# Altium footprint library EL-TCaseC2312(6032-28).PcbLib: 1 footprints
Each footprint in its own frame and in the unit in brackets; x right, y up, seen from the top. Pads: shape width x height; smd on the part's side, far side on the other; paste and mask are expansions set on the pad; w line width, h text height; cw(c..) or ccw(c..) is an arc to the next point about the centre after c.
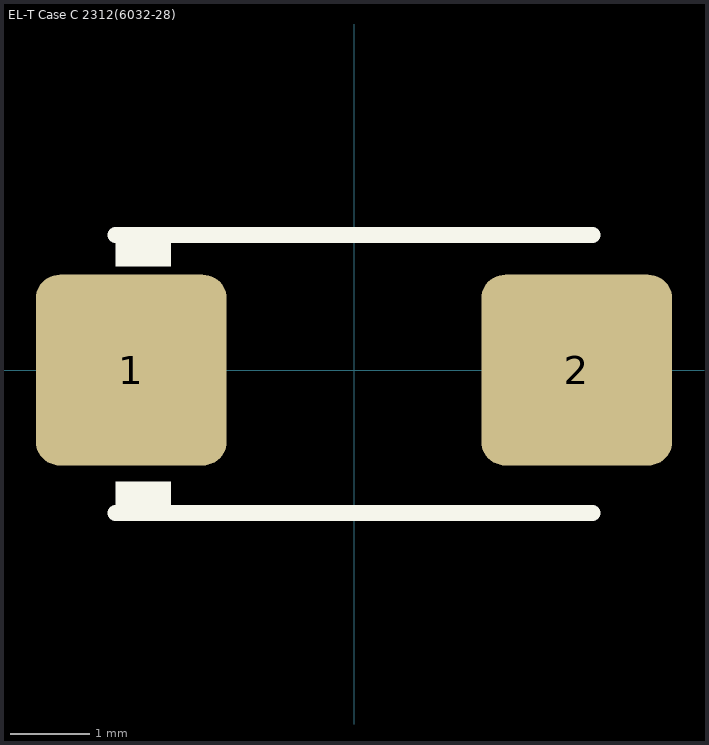
[diagram p0: the footprint, top view; thin cyan lines are the x and y axes]

## EL-T Case C 2312(6032-28) [mm] "Capacitor, SM Tantalum; Body 6.0 x 2.8 mm (LxW typ)"
height 2.8
pads (2):
  rrect25% 2.4x2.4 smd: 1(-2.8,0) 2(2.8,0)
Top Overlay:
  rectangle: -3,1.3 -2.3,1.6
  rectangle: -3,-1.7 -2.3,-1.4
  lines w0.2: -3,-1.8 3,-1.8 ; -3,1.7 3,1.7
3D body "EL-T SMD Case C 2312(6032-2.8).STEP": height 2.51, standoff 0, extent -2.997,-1.6 2.997,1.6